# Altium footprint library x1-Connector.PcbLib: 1 footprints
Each footprint in its own frame and in the unit in brackets; x right, y up, seen from the top. Pads: shape width x height; smd on the part's side, far side on the other; paste and mask are expansions set on the pad; w line width, h text height; cw(c..) or ccw(c..) is an arc to the next point about the centre after c.
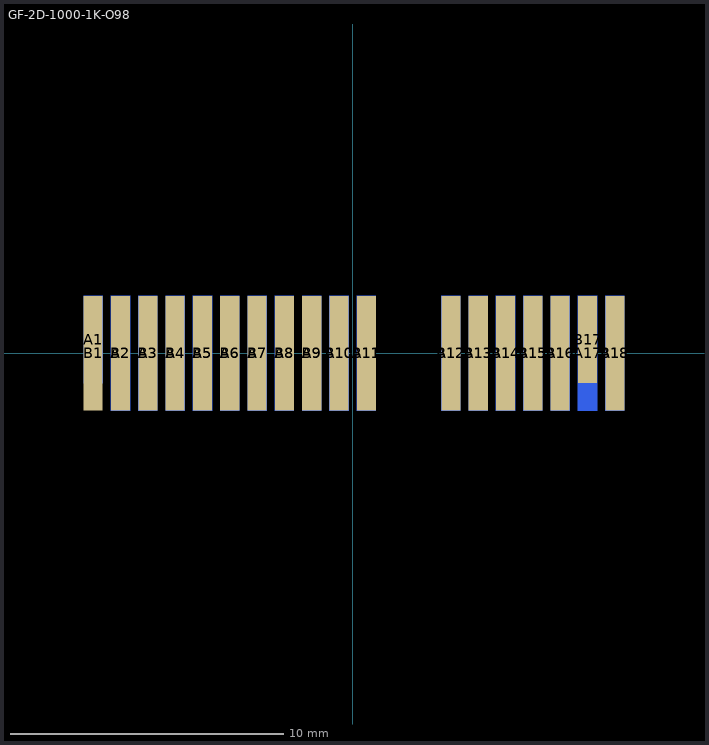
[diagram p0: the footprint, top view; thin cyan lines are the x and y axes]

## GF-2D-1000-1K-O98 [mm]
height 3.175
pads (36):
  rect 0.7x3.2 smd far side paste-2.54 mask+0: A1(-9.5,0.5)
  rect 0.7x4.2 smd far side paste-2.54 mask+0: A2(-8.5,0) A3(-7.5,0) A4(-6.5,0) A5(-5.5,0) A6(-4.5,0) A7(-3.5,0) A8(-2.5,0) A9(-1.5,0) A10(-0.5,0) A11(0.5,0) A12(3.596,0) A13(4.596,0) A14(5.596,0) A15(6.596,0) A16(7.596,0) A17(8.596,0) A18(9.596,0)
  rect 0.7x4.2 smd paste-2.54 mask+0: B1(-9.5,0) B2(-8.5,0) B3(-7.5,0) B4(-6.5,0) B5(-5.5,0) B6(-4.5,0) B7(-3.5,0) B8(-2.5,0) B9(-1.5,0) B10(-0.5,0) B11(0.5,0) B12(3.596,0) B13(4.596,0) B14(5.596,0) B15(6.596,0) B16(7.596,0) B18(9.596,0)
  rect 0.7x3.2 smd paste-2.54 mask+0: B17(8.596,0.5)
Top Solder:
  rectangle: -10.4,-3.75 10.287,2.225
Bottom Solder:
  rectangle: -10.4,-3.75 10.287,2.225